# EAGLE library part MAX44009 (library iSENSE_Data_Logger)
Maxim Light Sensor I2C interface.
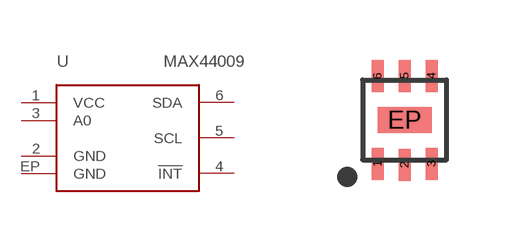
[diagram p5: symbol with the pads of UTDFN-OPTO; footprint UTDFN-OPTO]

Designator prefix U

## MAX44009 (PN: MAX44009EDT+T)  [UTDFN-OPTO]
1  VCC
2  GND  pwr
3  A0
4  !INT!  out
5  SCL  in
6  SDA
EP  GND  pwr

## Footprint UTDFN-OPTO (pad centres in mm)
smd 0.3 x 0.8: 1 -0.675,-1.1; 2 0,-1.125; 3 0.675,-1.1; 4 0.675,1.1; 5 0,1.1; 6 -0.675,1.1
smd 1.35 x 0.65: EP 0,0